# EAGLE library part PCM2705 (library Dmitry)
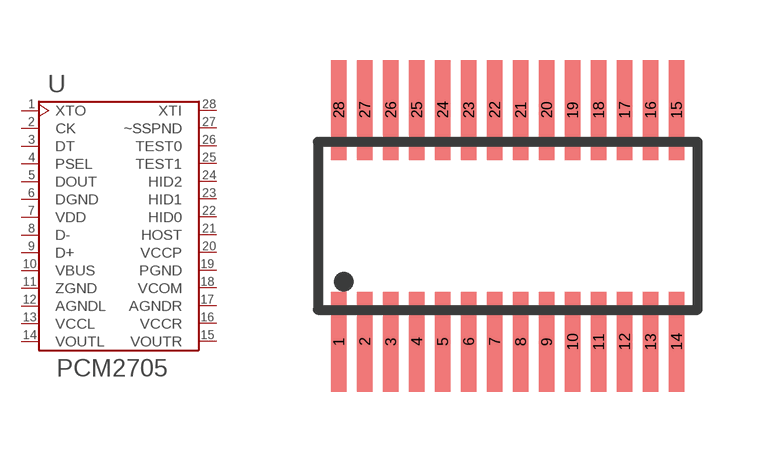
[diagram p5: symbol with the pads of PCM2705-TSSOP28; footprint PCM2705-TSSOP28]

Designator prefix U

## PCM2705  [PCM2705-TSSOP28]
1  XTO
2  CK
3  DT
4  PSEL
5  DOUT
6  DGND
7  VDD
8  D-
9  D+
10  VBUS
11  ZGND
12  AGNDL
13  VCCL
14  VOUTL
15  VOUTR
16  VCCR
17  AGNDR
18  VCOM
19  PGND
20  VCCP
21  HOST
22  HID0
23  HID1
24  HID2
25  TEST1
26  TEST0
27  ~SSPND
28  XTI

## Footprint PCM2705-TSSOP28 (pad centres in mm)
28-Lead TSSOP Package RU-28
smd 0.399 x 2.5: 1 -4.225,-2.9; 2 -3.575,-2.9; 3 -2.925,-2.9; 4 -2.275,-2.9; 5 -1.625,-2.9; 6 -0.975,-2.9; 7 -0.325,-2.9; 8 0.325,-2.9; 9 0.975,-2.9; 10 1.625,-2.9; 11 2.275,-2.9; 12 2.925,-2.9; 13 3.575,-2.9; 14 4.225,-2.9; 15 4.225,2.9; 16 3.575,2.9; 17 2.925,2.9; 18 2.275,2.9; 19 1.625,2.9; 20 0.975,2.9; 21 0.325,2.9; 22 -0.325,2.9; 23 -0.975,2.9; 24 -1.625,2.9; 25 -2.275,2.9; 26 -2.925,2.9; 27 -3.575,2.9; 28 -4.225,2.9